# Altium footprint library JMPKG.PcbLib: 337 footprints (part 9 of 22)
Each footprint in its own frame and in the unit in brackets; x right, y up, seen from the top. Pads: shape width x height; smd on the part's side, far side on the other; paste and mask are expansions set on the pad; w line width, h text height; cw(c..) or ccw(c..) is an arc to the next point about the centre after c.
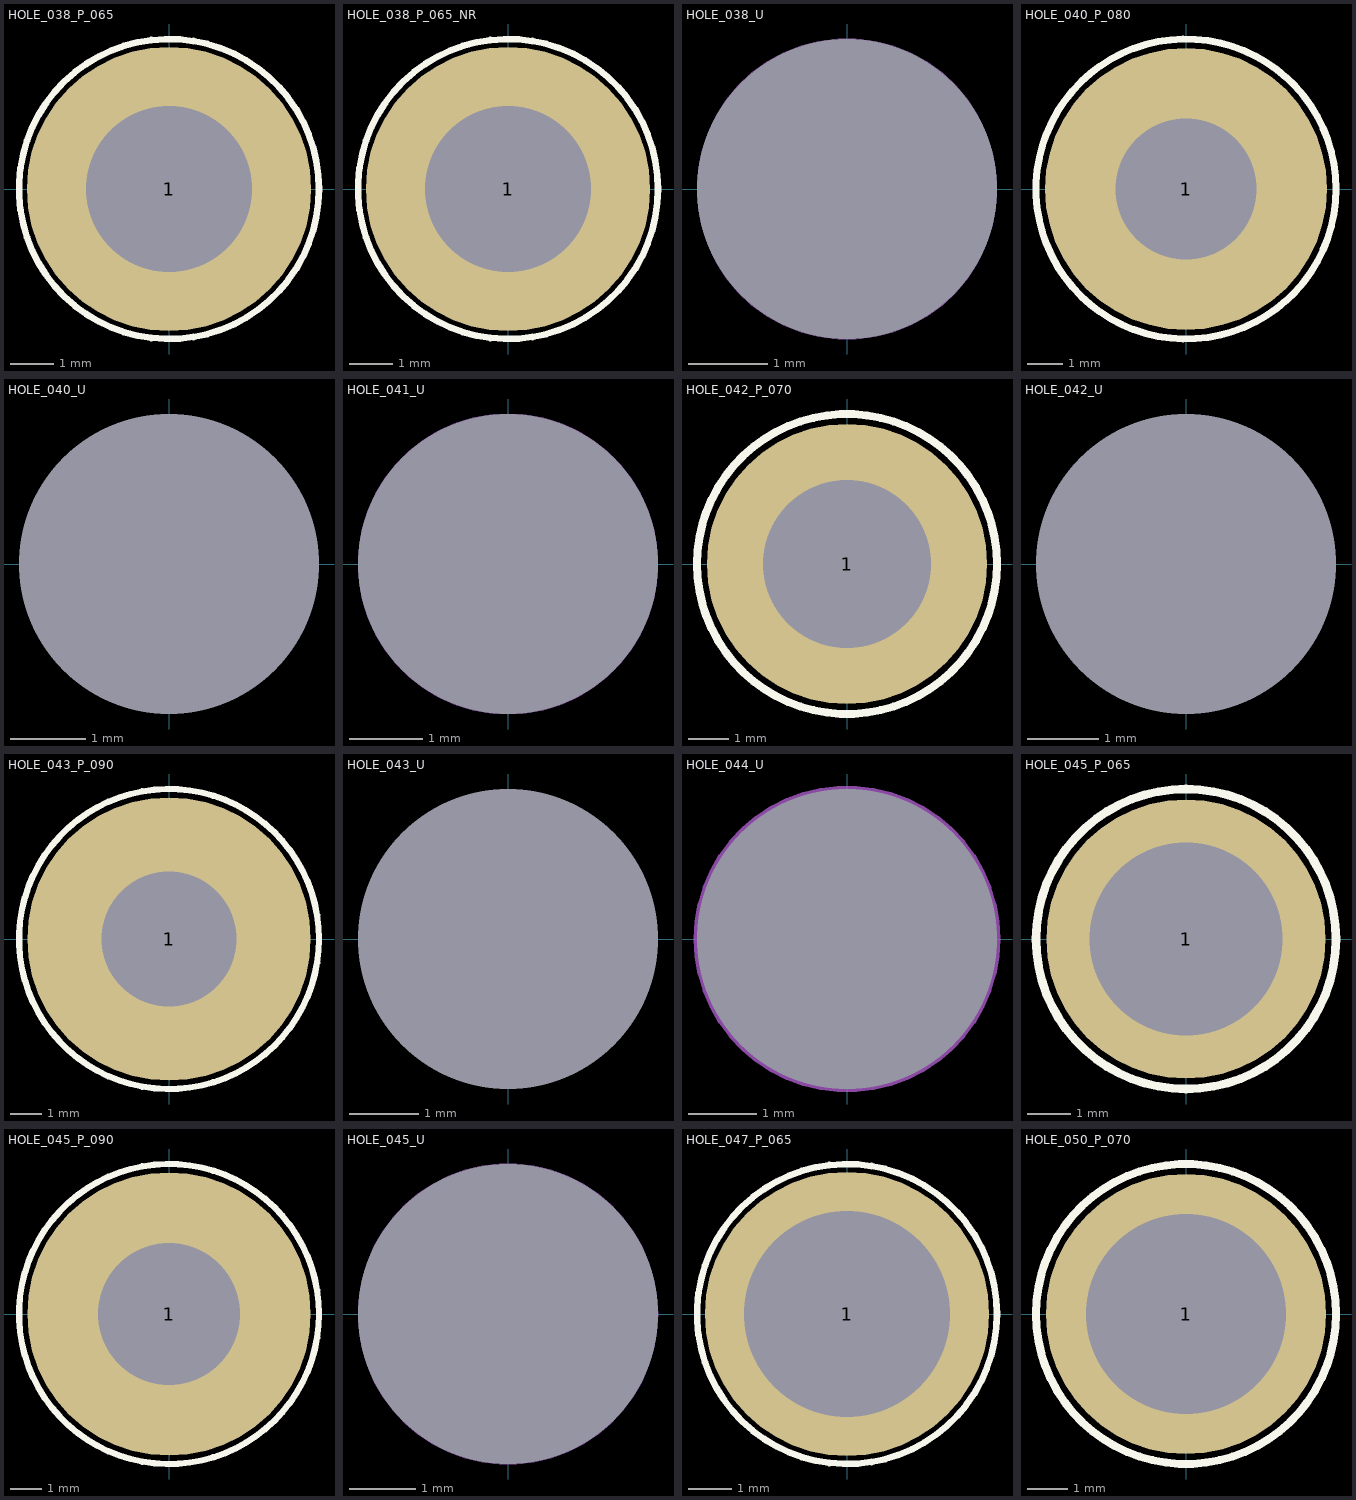
[diagram p8: the footprints below, top view; thin cyan lines are the x and y axes]

## HOLE_038_P_065 [mm]
pads (1):
  round 6.5 hole 3.8 mask+0.05: 1(0,0)
Top Overlay:
  circle w0.15: c0,0 r3.429
Mechanical 15:
  circle w0.01: c0,0 r1.9
Mechanical 16:
  circle w0.01: c0,0 r1.9
Multi-Layer:
  text "Value" at -1.099,-1.487 h0.6
Mechanical 20:
  circle w0.01: c0,0 r3.429

## HOLE_038_P_065_NR [mm]
pads (1):
  round 6.5 hole 3.8 mask+0.05: 1(0,0)
Top Overlay:
  circle w0.15: c0,0 r3.429
Mechanical 15:
  circle w0.01: c0,0 r1.9
Mechanical 16:
  circle w0.01: c0,0 r1.9
Mechanical 20:
  circle w0.01: c0,0 r3.429

## HOLE_038_U [mm]
pads (1):
  round 0 hole 3.8 unplated: 1(0,0)
Mechanical 15:
  circle w0.01: c0,0 r1.9
Mechanical 16:
  circle w0.01: c0,0 r1.9

## HOLE_040_P_080 [mm]
pads (1):
  round 8 hole 4 mask+0.05: 1(0,0)
Top Overlay:
  circle w0.2: c0,0 r4.255
Mechanical 15:
  circle w0.1: c0,0 r2
Mechanical 16:
  circle w0.1: c0,0 r2
Multi-Layer:
  text "Value" at -1.235,-0.996 h0.75
Mechanical 20:
  circle w0.1: c0,0 r4.255

## HOLE_040_U [mm]
pads (1):
  round 0 hole 4 unplated: 1(0,0)
Drill Drawing:
  circle w0.01: c0,0 r2

## HOLE_041_U [mm]
pads (1):
  round 0 hole 4.1 unplated: 1(0,0)
Mechanical 15:
  circle w0.01: c0,0 r2.05
Mechanical 16:
  circle w0.01: c0,0 r2.05

## HOLE_042_P_070 [mm]
pads (1):
  round 7 hole 4.2 mask+0.05: 1(0,0)
Top Overlay:
  circle w0.2: c0,0 r3.746
Mechanical 15:
  circle w0.01: c0,0 r2.1
Mechanical 16:
  circle w0.01: c0,0 r2.1
Multi-Layer:
  text "Value" at -1.19,-0.951 h0.75
Mechanical 20:
  circle w0.01: c0,0 r3.746

## HOLE_042_U [mm]
pads (1):
  round 0 hole 4.2 unplated: 1(0,0)
Drill Drawing:
  circle w0.01: c0,0 r2.1

## HOLE_043_P_090 [mm]
pads (1):
  round 9 hole 4.3 mask+0.05: 1(0,0)
Top Overlay:
  circle w0.2: c0,0 r4.763
Mechanical 15:
  circle w0.1: c0,0 r2.15
Mechanical 16:
  circle w0.1: c0,0 r2.15
Multi-Layer:
  text "Value" at -1.235,-0.996 h0.75
Mechanical 20:
  circle w0.1: c0,0 r4.763

## HOLE_043_U [mm]
pads (1):
  round 0 hole 4.3 unplated: 1(0,0)
Drill Drawing:
  circle w0.01: c0,0 r2.15

## HOLE_044_U [mm]
pads (1):
  round 0 hole 4.4 unplated: 1(0,0)
Mechanical 15:
  circle w0.1: c0,0 r2.2
Mechanical 16:
  circle w0.1: c0,0 r2.2

## HOLE_045_P_065 [mm]
pads (1):
  round 6.5 hole 4.5 mask+0.05: 1(0,0)
Top Overlay:
  circle w0.2: c0,0 r3.493
Mechanical 15:
  circle w0.01: c0,0 r2.25
Mechanical 16:
  circle w0.01: c0,0 r2.25
Multi-Layer:
  text "Value" at -1.19,-0.951 h0.75
  text "Value" at -1.172,0.184 h0.75
Mechanical 20:
  circle w0.01: c0,0 r3.492

## HOLE_045_P_090 [mm]
pads (1):
  round 9 hole 4.5 mask+0.05: 1(0,0)
Top Overlay:
  circle w0.2: c0,0 r4.763
Mechanical 15:
  circle w0.1: c0,0 r2.25
Mechanical 16:
  circle w0.1: c0,0 r2.25
Multi-Layer:
  text "Value" at -1.235,-0.996 h0.75
Mechanical 20:
  circle w0.1: c0,0 r4.763

## HOLE_045_U [mm]
pads (1):
  round 0 hole 4.5 unplated: 1(0,0)
Mechanical 15:
  circle w0.01: c0,0 r2.25
Mechanical 16:
  circle w0.01: c0,0 r2.25

## HOLE_047_P_065 [mm]
pads (1):
  round 6.5 hole 4.7 mask+0.05: 1(0,0)
Top Overlay:
  circle w0.15: c0,0 r3.429
Mechanical 15:
  circle w0.01: c0,0 r2.35
Mechanical 16:
  circle w0.01: c0,0 r2.35
Multi-Layer:
  text "Value" at -0.988,-2.145 h0.6
Mechanical 20:
  circle w0.01: c0,0 r3.429

## HOLE_050_P_070 [mm]
pads (1):
  round 7 hole 5 mask+0.05: 1(0,0)
Top Overlay:
  circle w0.2: c0,0 r3.746
Mechanical 15:
  circle w0.01: c0,0 r2.5
Mechanical 16:
  circle w0.01: c0,0 r2.5
Multi-Layer:
  text "Value" at -1.19,-0.951 h0.75
Mechanical 20:
  circle w0.01: c0,0 r3.746